# Altium schematic symbol library Parts.SchLib: 1 symbol
Pins are listed as number, name and electrical type; pins without a type are passive.

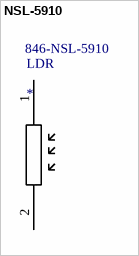
[diagram p0: symbol NSL-5910]

## NSL-5910
designator LDR  Supplier Part Number 1: 846-NSL-5910
Ambient Light Sensors Hermetic Photocell; Supplier 1: Mouser
footprint FB_28C0236-0JW-10
pins: 1, 2